# Altium footprint library TACTILE_SWITCH_6X6_LONG.PcbLib: 1 footprints
Each footprint in its own frame and in the unit in brackets; x right, y up, seen from the top. Pads: shape width x height; smd on the part's side, far side on the other; paste and mask are expansions set on the pad; w line width, h text height; cw(c..) or ccw(c..) is an arc to the next point about the centre after c.
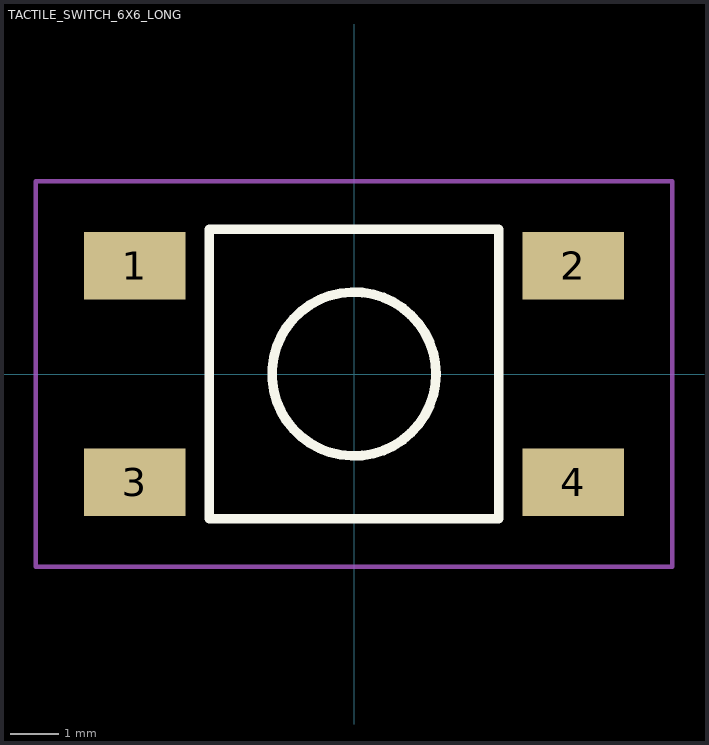
[diagram p0: the footprint, top view; thin cyan lines are the x and y axes]

## TACTILE_SWITCH_6X6_LONG [mm]
pads (4):
  rect 2.1x1.4 smd: 1(-4.55,2.25) 2(4.55,2.25) 3(-4.55,-2.25) 4(4.55,-2.25)
Top Overlay:
  circle w0.2: c0,0 r1.7
  lines w0.2: -3,-3 -3,3 3,3 3,-3 -3,-3
Top Courtyard:
  lines w0.1: -6.6,-4 -3,-4 6.6,-4 6.6,4 -6.6,4 -6.6,-4
3D body "c-2-1977223-9-b2-3d.stp": height 13.4, standoff 0.4, extent -5,-3 5,3